# EAGLE library part SI5351-A-B-GT (library Si5351B)
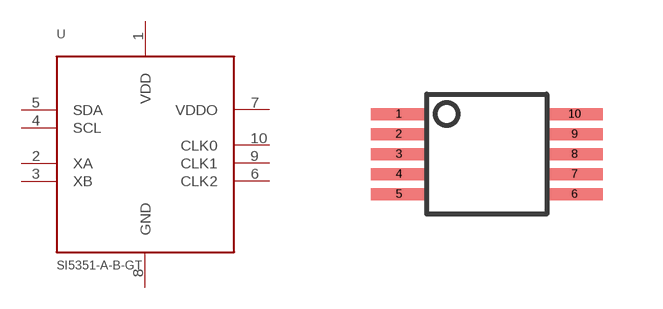
[diagram p0: symbol with the pads of MSOP-10; footprint MSOP-10]

Designator prefix -

## SI5351-A-B-GT  [MSOP-10]
1  VDD
2  XA
3  XB
4  SCL
5  SDA
6  CLK2
7  VDDO
8  GND
9  CLK1
10  CLK0

## Footprint MSOP-10 (pad centres in mm)
smd 1.4 x 0.3: 1 -2.2,1; 2 -2.2,0.5; 3 -2.2,0; 4 -2.2,-0.5; 5 -2.2,-1; 6 2.2,-1; 7 2.2,-0.5; 8 2.2,0; 9 2.2,0.5; 10 2.2,1